# Altium footprint library Switcher.PcbLib: 128 footprints (part 9 of 9)
Each footprint in its own frame and in the unit in brackets; x right, y up, seen from the top. Pads: shape width x height; smd on the part's side, far side on the other; paste and mask are expansions set on the pad; w line width, h text height; cw(c..) or ccw(c..) is an arc to the next point about the centre after c.
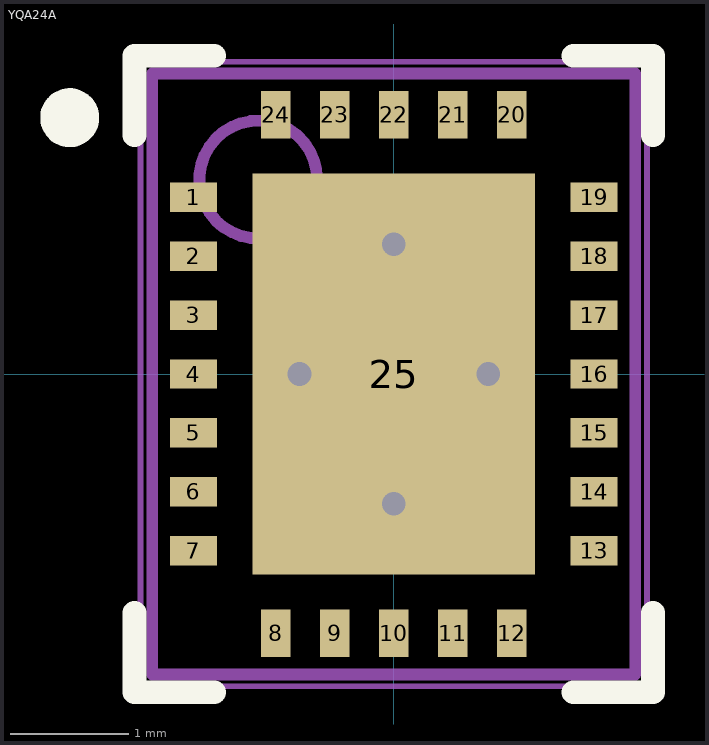
[diagram p8: the footprint, top view; thin cyan lines are the x and y axes]

## YQA24A [mm] "PQFN, 24-Leads, Body 5x4mm, Pitch 0.5mm, NSC Recommended"
height 0.8
pads (25):
  rect 0.4x0.25 smd paste-0.2 mask+0.051: 1(-1.7,1.5) 2(-1.7,1) 3(-1.7,0.5) 4(-1.7,0) 5(-1.7,-0.5) 6(-1.7,-1) 7(-1.7,-1.5) 13(1.7,-1.5) 14(1.7,-1) 15(1.7,-0.5) 16(1.7,0) 17(1.7,0.5) 18(1.7,1) 19(1.7,1.5)
  rect 0.25x0.4 smd paste-0.2 mask+0.051: 8(-1,-2.2) 9(-0.5,-2.2) 10(0,-2.2) 11(0.5,-2.2) 12(1,-2.2) 20(1,2.2) 21(0.5,2.2) 22(0,2.2) 23(-0.5,2.2) 24(-1,2.2)
  rect 2.4x3.4 smd paste-1.2 mask+0.051: 25(0,0)
via -0.8,0 diameter 0.5 hole 0.2
via 0,-1.1 diameter 0.5 hole 0.2
via 0,1.1 diameter 0.5 hole 0.2
via 0.8,0 diameter 0.5 hole 0.2
Top Overlay:
  circle w0.25: c-2.75,2.175 r0.125
  lines w0.2: -2.2,-2.025 -2.2,-2.7 -1.525,-2.7 ; -2.2,2.025 -2.2,2.7 -1.525,2.7 ; 1.525,-2.7 2.2,-2.7 2.2,-2.025 ; 1.525,2.7 2.2,2.7 2.2,2.025
Top Paste:
  rectangle: 0.875,2.1 1.125,2.5
  rectangle: 0.375,2.1 0.625,2.5
  rectangle: -0.125,2.1 0.125,2.5
  rectangle: -0.625,2.1 -0.375,2.5
  region: -0.875,2.5 -1.125,2.5 -1.125,2.1 -0.875,2.1
  region: -0.875,-2.1 -1.125,-2.1 -1.125,-2.5 -0.875,-2.5
  rectangle: -0.625,-2.5 -0.375,-2.1
  rectangle: -0.125,-2.5 0.125,-2.1
  rectangle: 0.375,-2.5 0.625,-2.1
  region: 2,-1.375 1.6,-1.375 1.6,-1.625 2,-1.625
  region: 2,-0.875 1.6,-0.875 1.6,-1.125 2,-1.125
  region: 2,-0.375 1.6,-0.375 1.6,-0.625 2,-0.625
  region: 2,0.125 1.6,0.125 1.6,-0.125 2,-0.125
  region: 2,0.625 1.6,0.625 1.6,0.375 2,0.375
  region: 2,1.125 1.6,1.125 1.6,0.875 2,0.875
  region: 2,1.625 1.6,1.625 1.6,1.375 2,1.375
  rectangle: -2,1.375 -1.6,1.625
  rectangle: 0.15,0.15 1.1,1.6
  region: -0.15,1.6 -1.1,1.6 -1.1,0.15 -0.15,0.15
  region: -0.15,-0.15 -1.1,-0.15 -1.1,-1.6 -0.15,-1.6
  rectangle: 0.15,-1.6 1.1,-0.15
  rectangle: -2,0.875 -1.6,1.125
  rectangle: -2,0.375 -1.6,0.625
  rectangle: -2,-0.125 -1.6,0.125
  rectangle: -2,-0.625 -1.6,-0.375
  rectangle: -2,-1.125 -1.6,-0.875
  rectangle: -2,-1.625 -1.6,-1.375
  rectangle: 0.875,-2.5 1.125,-2.1
Mechanical 13:
  circle w0.1: c-1.15,1.65 r0.5
  lines w0.1: -2.05,-2.55 2.05,-2.55 2.05,2.55 -2.05,2.55 -2.05,-2.55
Mechanical 15:
  lines w0.05: -2.15,-2.65 2.15,-2.65 2.15,2.65 -2.15,2.65 -2.15,-2.65
  lines w0.1: -0.5,0 0.5,0 ; 0,-0.5 0,0.5
3D body: height 0.8, standoff 0, extent -2.05,-2.55 2.05,2.55